# Altium schematic symbol library SCH - POWER - SWITCHMODE - TI TPS54201DDC.SchLib: 1 symbol
Pins are listed as number, name and electrical type; pins without a type are passive.

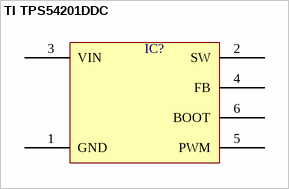
[diagram p0: symbol TI TPS54201DDC]

## TI TPS54201DDC
designator IC?  (value not drawn)
pins: 1 GND, 2 SW, 3 VIN, 4 FB, 5 PWM, 6 BOOT